# Altium integrated library 2N7002.IntLib: 1 symbol
Pins are listed as number, name and electrical type; pins without a type are passive.

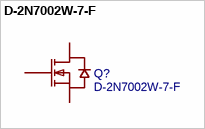
[diagram p0: symbol D-2N7002W-7-F]

## D-2N7002W-7-F
designator Q?
Manufacturer: DIODES(美台); Contributor: lcsc; Supplier: LCSC; Supplier Part: C5148571; Manufacturer Part: D-2N7002W-7-F; JLCPCB Part Class: Extended Part; spicePre: Q; spiceSymbolName: D-2N7002W-7-F
footprint SOT-323-3_L2.2-W1.3-P1.30-LS2.2-BR
pins: 1 G, 2 S, 3 D